# Altium schematic symbol library C1608X7R1H104K080AA.SchLib: 1 symbol
Pins are listed as number, name and electrical type; pins without a type are passive.

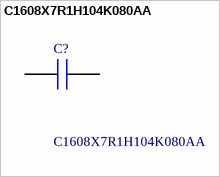
[diagram p0: symbol C1608X7R1H104K080AA]

## C1608X7R1H104K080AA
designator C?
MULTILAYER CERAMIC CHIP CAPACITORS, 1608, Commercial grade, general (Up to 75V); Manufacturer_Name: TDK; Geometry.Height: 0.8mm; Mouser Part Number: 810-C1608X7R1H104K; Mouser Price/Stock: https://www.mouser.co.uk/ProductDetail/TDK/C1608X7R1H104K080AA?qs=NRhsANhppD8dEJli2CDBHA%3D%3D; Manufacturer_Part_Number: C1608X7R1H104K080AA; Datasheet Link: https://product.tdk.com/info/en/catalog/datasheets/mlcc_commercial_midvoltage_en.pdf
footprint CAPC1608X80N
pins: 1, 2